# Altium schematic symbol library Misc.SchLib: 2 symbols
Pins are listed as number, name and electrical type; pins without a type are passive.

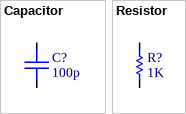
[diagram p0: symbols Capacitor to Resistor]

## Capacitor
designator C?, comment 100p
Capacitor; Value: 100p; Rated Voltage: *
footprint C0603 (Chip Capacitor, 2-Leads, Body 1,55x0,85mm, IPC Medium Density)
footprint C0805 (Chip Capacitor, 2-Leads, Body 2,00x1,25mm, IPC Medium Density)
footprint C1206 (Chip Capacitor, 2-Leads, Body 3,20x1,60mm, IPC Medium Density)
pins: 1, 2

## Resistor
designator R?, comment 1K
Resistor; Value: 1K; Power: *
footprint R0603 (Chip Resistor, 2-Leads, Body 1,55x0,85mm, IPC Medium Density)
footprint R0805 (Chip Resistor, 2-Leads, Body 2,00x1,25mm, IPC Medium Density)
footprint R1206 (Chip Resistor, 2-Leads, Body 3,20x1,60mm, IPC Medium Density)
footprint R2512 (Chip Resistor, 2-Leads, Body 6,40x3,20mm, IPC Medium Density)
pins: 1, 2